# Altium schematic symbol library PCA9543A.SchLib: 1 symbol
Pins are listed as number, name and electrical type; pins without a type are passive.

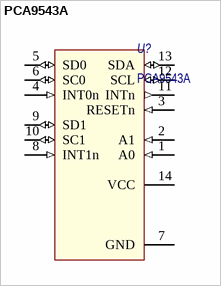
[diagram p0: symbol PCA9543A]

## PCA9543A
designator U?
Dual-channel I2C multiplexer; Назначение: Двухканальный мультиплексор шины I2C; Потребление, Вт: 0.001; Наименование: PCA9543A
footprint TSSOP-14
pins: 1 A0 (in), 2 A1 (in), 3 RESETn (in), 4 INT0n (in), 5 SD0 (io), 6 SC0 (io), 7 GND (power), 8 INT1n (in), 9 SD1 (io), 10 SC1 (io), 11 INTn (out), 12 SCL (io), 13 SDA (io), 14 VCC (power)